# Altium footprint library B3QFN-15.PcbLib: 1 footprints
Each footprint in its own frame and in the unit in brackets; x right, y up, seen from the top. Pads: shape width x height; smd on the part's side, far side on the other; paste and mask are expansions set on the pad; w line width, h text height; cw(c..) or ccw(c..) is an arc to the next point about the centre after c.
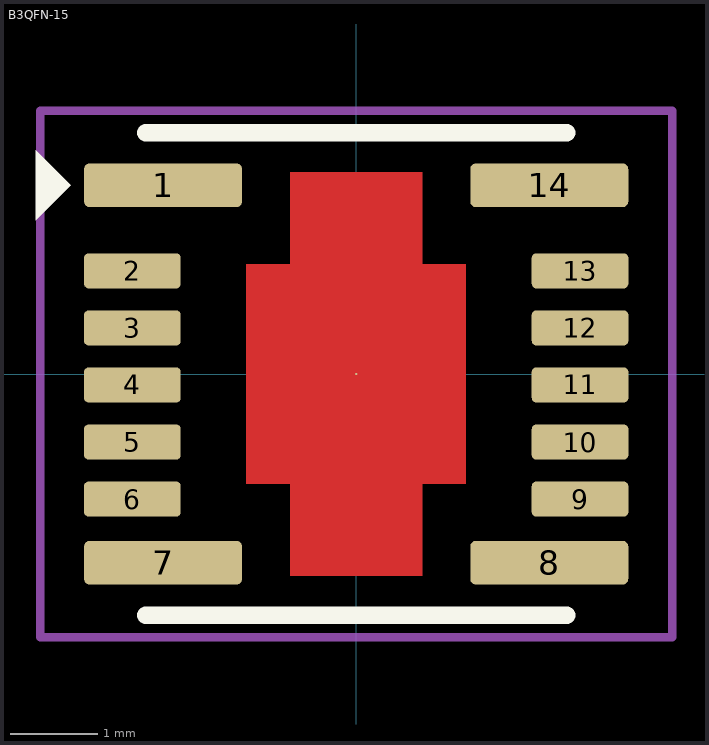
[diagram p0: the footprint, top view; thin cyan lines are the x and y axes]

## B3QFN-15 [mm]
pads (15):
  rrect25% 1.8x0.5 smd: 1(-2.2,2.15) 7(-2.2,-2.15) 8(2.2,-2.15) 14(2.2,2.15)
  rrect25% 1.1x0.4 smd: 2(-2.55,1.175) 3(-2.55,0.525) 4(-2.55,-0.125) 5(-2.55,-0.775) 6(-2.55,-1.425) 9(2.55,-1.425) 10(2.55,-0.775) 11(2.55,-0.125) 12(2.55,0.525) 13(2.55,1.175)
  round 0.025 smd: 15(0,0)
Top Layer:
  region: -0.75,-2.3 -0.75,-1.25 -1.25,-1.25 -1.25,1.25 -0.75,1.25 -0.75,2.3 0.75,2.3 0.75,1.25 1.25,1.25 1.25,-1.25 0.75,-1.25 0.75,-2.3
Top Overlay:
  region: -3.65,1.75 -3.65,2.55 -3.25,2.15
  lines w0.2: -2.4,-2.75 2.4,-2.75 ; -2.4,2.75 2.4,2.75
Top Courtyard:
  lines w0.1: -3.6,-3 -3.6,3 3.6,3 3.6,-3 -2.4,-3 -3.6,-3
3D body "TPSM53603RDAR--3DModel-STEP-56544.STEP": height 4.1, standoff 0, extent -2.5,-2.75 2.5,2.75